# EAGLE library part MAX1771 (library be_driver)
edited: Mario Blunk / Blunk electronic date: 2014-09-03
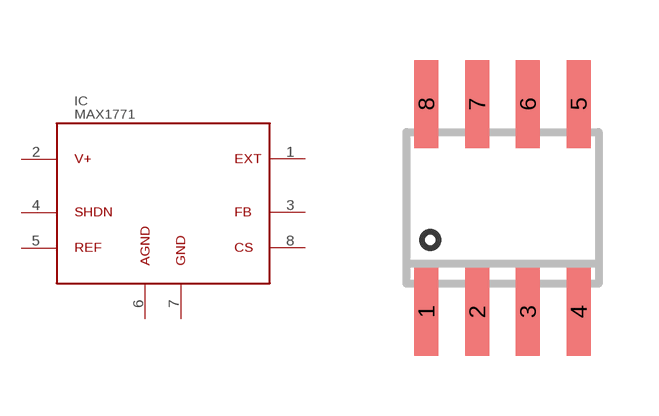
[diagram p6: symbol with the pads of S_SO8; footprint S_SO8]

Designator prefix IC

## MAX1771 (BOM: YES; COMMISSIONED: 2014-09-03; PART_CODE_BEL: IC_PAC_S_SO8_VAL_MAX1771xxx)  [S_SO8]
1  EXT  out
2  V+  pwr
3  FB  pas
4  SHDN  in
5  REF  pas
6  AGND  pwr
7  GND  pwr
8  CS  pas

## Footprint S_SO8 (pad centres in mm)
edited: Mario Blunk date: 2014-11-20
smd 0.6 x 2.2: 1 -1.905,-2.6; 2 -0.635,-2.6; 3 0.635,-2.6; 4 1.905,-2.6; 5 1.905,2.6; 6 0.635,2.6; 7 -0.635,2.6; 8 -1.905,2.6